# Altium footprint library conversor.PcbLib: 1 footprints
Each footprint in its own frame and in the unit in brackets; x right, y up, seen from the top. Pads: shape width x height; smd on the part's side, far side on the other; paste and mask are expansions set on the pad; w line width, h text height; cw(c..) or ccw(c..) is an arc to the next point about the centre after c.
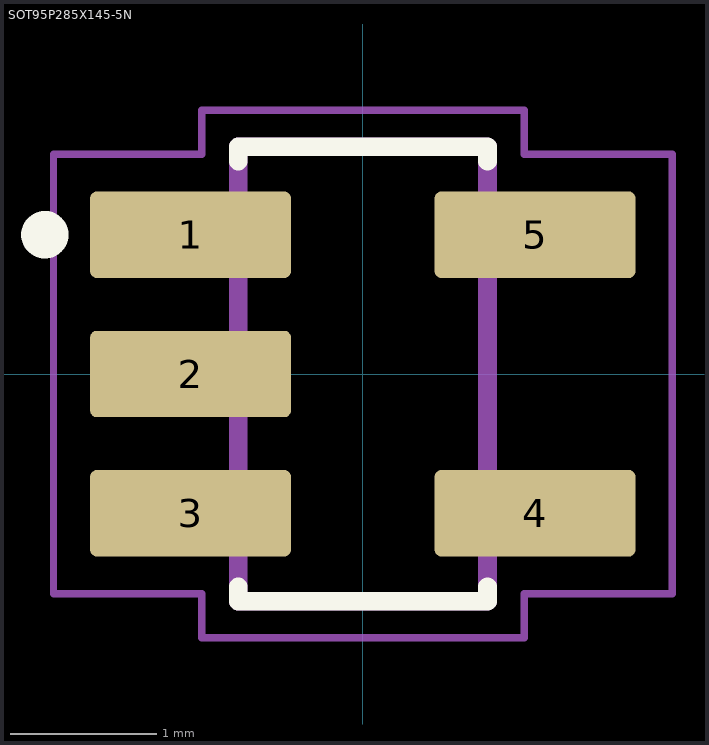
[diagram p0: the footprint, top view; thin cyan lines are the x and y axes]

## SOT95P285X145-5N [mm]
pads (5):
  rrect15% 1.37x0.59 smd: 1(-1.175,0.95) 2(-1.175,0) 3(-1.175,-0.95) 4(1.175,-0.95) 5(1.175,0.95)
Top Overlay:
  circle w0.2: c-2.169,0.95 r0.062
  lines w0.127: -0.85,-1.45 -0.85,-1.55 0.85,-1.55 0.85,-1.45 ; -0.85,1.45 -0.85,1.55 0.85,1.55 0.85,1.45
Mechanical 13:
  lines w0.127: -0.85,-1.55 -0.85,1.55 0.85,1.55 0.85,-1.55 -0.85,-1.55
Mechanical 15:
  lines w0.05: -2.11,-1.5 -1.1,-1.5 -1.1,-1.8 1.1,-1.8 1.1,-1.5 2.11,-1.5 2.11,1.5 1.1,1.5 1.1,1.8 -1.1,1.8 -1.1,1.5 -2.11,1.5 -2.11,-1.5
3D body "conversor.STEP": height 1.4, standoff 0, extent -1.4,-1.5 1.4,1.5